# EAGLE library part MIC94090YC6-TR (library U-Microchip-MIC94090YC6)
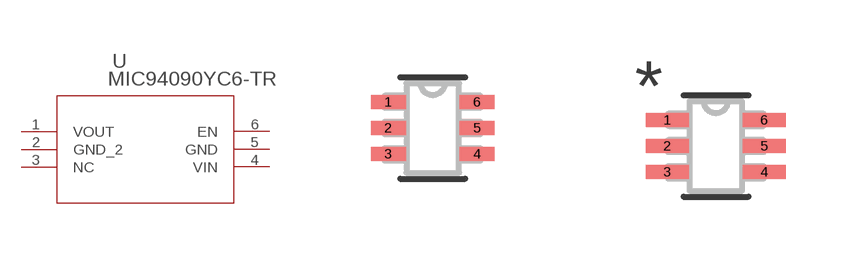
[diagram p0: symbol with the pads of SC-70-6_MCH; footprints SC-70-6_MCH, SC-70-6_MCH-M]

Designator prefix U

## MIC94090YC6-TR (BUILT_BY: EMA_Cory; COPYRIGHT: Copyright (C) 2018 Accelerated Designs. All rights reserved; DATASHEET: http://ww1.microchip.com/downloads/en/DeviceDoc/mic9409x.pdf; MANUFACTURER_PART_NUMBER: MIC94090YC6; SOURCELIBRARY: Microchip_2020-03-11; VENDOR: Microchip)  [SC-70-6_MCH]
1  VOUT  out
2  GND_2  pas
3  NC  nc
4  VIN  in
5  GND  pas
6  EN  in

## MIC94090YC6-TRSC-70-6_MCH-M (BUILT_BY: EMA_Cory; COPYRIGHT: Copyright (C) 2018 Accelerated Designs. All rights reserved; DATASHEET: http://ww1.microchip.com/downloads/en/DeviceDoc/mic9409x.pdf; MANUFACTURER_PART_NUMBER: MIC94094YC6-TR; SOURCELIBRARY: Microchip_2020-03-11; VENDOR: Microchip)  [SC-70-6_MCH-M]
Pads as for SC-70-6_MCH

## MIC94090YC6-TRSC-70-6_MCH-L (BUILT_BY: EMA_Cory; COPYRIGHT: Copyright (C) 2018 Accelerated Designs. All rights reserved; DATASHEET: http://ww1.microchip.com/downloads/en/DeviceDoc/mic9409x.pdf; MANUFACTURER_PART_NUMBER: MIC94094YC6-TR; SOURCELIBRARY: Microchip_2020-03-11; VENDOR: Microchip)  [SC-70-6_MCH-L]
Pads as for SC-70-6_MCH

## Footprint SC-70-6_MCH (pad centres in mm)
smd 0.876 x 0.356: 1 -1.111,0.65; 2 -1.111,0; 3 -1.111,-0.65; 4 1.111,-0.65; 5 1.111,0; 6 1.111,0.65

## Footprint SC-70-6_MCH-M (pad centres in mm)
smd 1.079 x 0.356: 1 -1.213,0.65; 2 -1.213,0; 3 -1.213,-0.65; 4 1.213,-0.65; 5 1.213,0; 6 1.213,0.65

## Footprint SC-70-6_MCH-L (pad centres in mm)
smd 0.673 x 0.305: 1 -1.01,0.65; 2 -1.01,0; 3 -1.01,-0.65; 4 1.01,-0.65; 5 1.01,0; 6 1.01,0.65